# Altium schematic symbol library IC_Ref.SchLib: 3 symbols
Pins are listed as number, name and electrical type; pins without a type are passive.

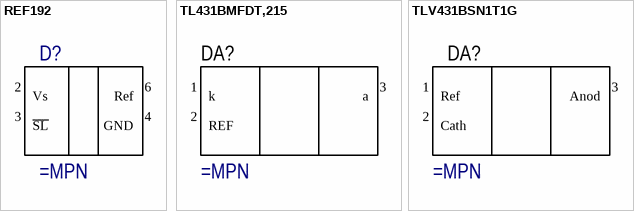
[diagram p0: symbols REF192 to TLV431BSN1T1G]

## REF192
designator D?
pins: 2 Vs, 3 ~{SL}, 4 GND, 6 Ref

## TL431BMFDT,215
designator DA?
pins: 1 k, 2 REF, 3 a

## TLV431BSN1T1G
designator DA?
pins: 1 Ref, 2 Cath, 3 Anod